# EAGLE library part POLOLU_STEP_DOWN_5V_9A (library arcs_library)
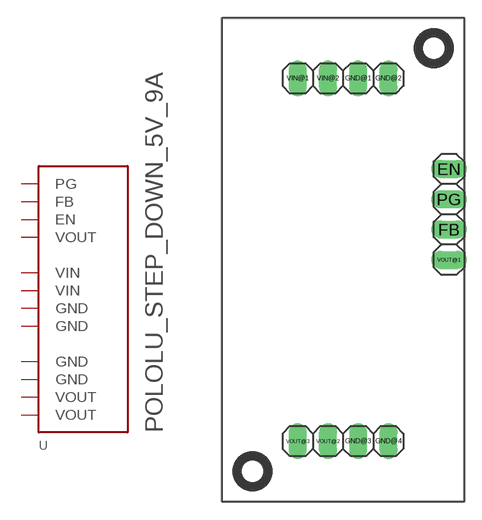
[diagram p7: symbol with the pads of POLOLU_STEP_DOWN_5V_9A; footprint POLOLU_STEP_DOWN_5V_9A]

Designator prefix -

## POLOLU_STEP_DOWN_5V_9A  [POLOLU_STEP_DOWN_5V_9A]
EN  EN
FB  FB
GND@1  GND
GND@2  GND
GND@3  GND
GND@4  GND
PG  PG
VIN@1  VIN
VIN@2  VIN
VOUT@1  VOUT
VOUT@2  VOUT
VOUT@3  VOUT

## Footprint POLOLU_STEP_DOWN_5V_9A (pad centres in mm)
drill 1.016 long: EN 19.05,27.94; FB 19.05,22.86; GND@1 11.43,35.56; GND@2 13.97,35.56; GND@3 11.43,5.08; GND@4 13.97,5.08; PG 19.05,25.4; VIN@1 6.35,35.56; VIN@2 8.89,35.56; VOUT@1 19.05,20.32; VOUT@2 8.89,5.08; VOUT@3 6.35,5.08
hole 2.4 at 17.78,38.1
hole 2.4 at 2.54,2.54